# Altium schematic symbol library o-ring.SchLib: 1 symbol
Pins are listed as number, name and electrical type; pins without a type are passive.

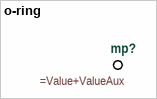
[diagram p0: symbol o-ring]

## o-ring
designator mp?  (mechanical)
=Description